# Altium schematic symbol library Conectores_Sch.SchLib: 19 symbols
Pins are listed as number, name and electrical type; pins without a type are passive.

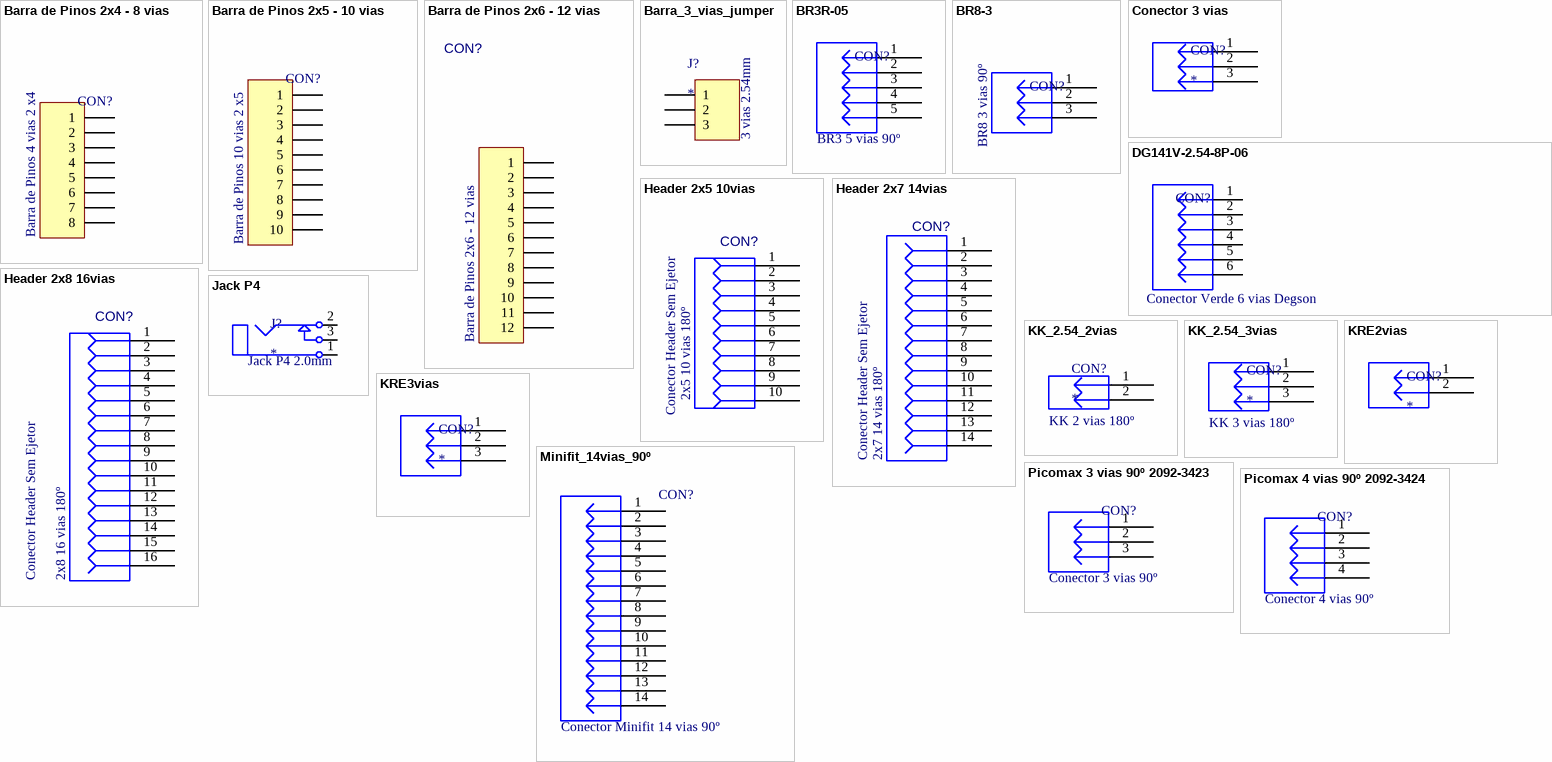
[diagram p0: symbols Barra de Pinos 2x4 - 8 vias to Picomax 4 vias 90º 2092-3424]

## Barra de Pinos 2x4 - 8 vias
designator CON?  Descrição: Barra de Pinos 4 vias 2 x4  (hidden comment: *)
Barra de Pinos 8 vias 2x4; Modelo: 2x4 8 vias - 180º; Observação: Não Montar; Encapsulamento: PTH - 180º; Marca: *
footprint HDR2X4 (Connector; Header; 3x2 Position)
footprint BARRA DE PINOS 2X4 - 90°
pins: 1, 2, 3, 4, 5, 6, 7, 8

## Barra de Pinos 2x5 - 10 vias
designator CON?  Descrição: Barra de Pinos 10 vias 2 x5  (hidden comment: *)
Barra de Pinos 10 vias 2x5; Modelo: 2x5 10 vias - 180º; Observação: Não Montar; Encapsulamento: PTH - 180º; Marca: *
footprint BARRA DE PINOS 2x5 180º (BARRA DE PINOS 5x2 180º Position)
pins: 1, 2, 3, 4, 5, 6, 7, 8, 9, 10

## Barra de Pinos 2x6 - 12 vias
designator CON?
Encapsulamento: PTH - 12 vias 180º; Marca: *; Modelo: *; Observação: *; Valor: *; Descrição: Barra de Pinos 2x6 - 12 vias
footprint BARRA DE PINOS 2X6 - 90°
footprint BARRA DE PINOS 2x6 180º (BARRA DE PINOS 2x6 180º Position)
pins: 1, 2, 3, 4, 5, 6, 7, 8, 9, 10, 11, 12

## Barra_3_vias_jumper
designator J?  Valor: 3 vias 2.54mm
Barra de Pinos 3 vias com Jumper; Descrição: Barras de Pinos 3 vias 180º com Jumper; Encapsulamento: PTH - 3 Vias 180º; Modelo: 3 Vias 180º; Marca: *; Observação: *
footprint Barra_Pinos_3_Jumper
pins: 1, 2, 3

## BR3R-05
designator CON?  Valor: BR3 5 vias 90º  (hidden comment: *)
Conector BR3 5 vias; Descrição: Conector BR3 5 vias 90º; Encapsulamento: PTH - 90º; Marca: Metaltex; Modelo: 5 vias - 90º; Observação: *
footprint KR3R-5vias
pins: 1, 2, 3, 4, 5

## BR8-3
designator CON?  Valor: BR8 3 vias 90º  (hidden comment: *)
Conector BR3 5 vias; Descrição: Conector BR8 3 vias; Encapsulamento: PTH - 90º; Marca: Metaltex; Modelo: BR8MN-03; Observação: *
footprint BR8MC-03
footprint BR8MN-03
pins: 1, 2, 3

## Conector 3 vias
designator CON?
Conector 3 vias sem corpo; Encapsulamento: PTH - 180º; Modelo: 3 vias - 180º; Descrição: Conector 3 vias sem Corpo; Marca: *; Observação: *
footprint CONECTOR_3_VIAS_SEM_CORPO
pins: 1, 2, 3

## DG141V-2.54-8P-06
designator CON?  Descrição: Conector Verde 6 vias Degson  (hidden comment: *)
Degson 6 Vias Verde; Encapsulamento: PTH - 180º; Modelo: DG141V-2.54-8P-06; Marca: *; Observação: *
footprint DG141V-2.54-8P-06
pins: 1, 2, 3, 4, 5, 6

## Header 2x5 10vias
designator CON?  Modelo: 2x5 10 vias 180º  Descrição: Conector Header Sem Ejetor  (hidden comment: Header 2x5 10vias)
CONNFEM2X5; Encapsulamento: PTH - 2x5 10 vias 180º; Valor: *; Marca: *; Observação: *
footprint HEADER 2x5 180º
footprint HEADER 2x5 90º
pins: 1, 2, 3, 4, 5, 6, 7, 8, 9, 10

## Header 2x7 14vias
designator CON?  Modelo: 2x7 14 vias 180º  Descrição: Conector Header Sem Ejetor  (hidden comment: Header 2x7 14vias)
CONNFEM2X7; Encapsulamento: PTH - 2x7 14 vias 180º; Valor: *; Marca: *; Observação: *
footprint HEADER 2x7 180º
pins: 1, 2, 3, 4, 5, 6, 7, 8, 9, 10, 11, 12, 13, 14

## Header 2x8 16vias
designator CON?  Modelo: 2x8 16 vias 180º  Descrição: Conector Header Sem Ejetor  (hidden comment: Header 2x8 16vias)
CONNFEM2X5; Encapsulamento: PTH - 2x8 16 vias 180º; Valor: *; Marca: *; Observação: *
footprint HEADER 2x8 180º
footprint HEADER 2x8 180º SMD
pins: 1, 2, 3, 4, 5, 6, 7, 8, 9, 10, 11, 12, 13, 14, 15, 16

## Jack P4
designator J?  Valor: Jack P4 2.0mm
Conector Femêa Jack P4; Descrição: Conector Femêa Jack P4 2mm; Encapsulamento: PTH; Marca: *; Modelo: *; Observação: *
footprint CONECTOR_JACK_P4
pins: 1, 2, 3

## KK_2.54_2vias
designator CON?  Valor: KK 2 vias 180º
Conector KK 2.54mm 2 vias; Descrição: Conector KK 3 vias com passo 2.54mm; Encapsulamento: PTH - 180º; Modelo: 2 vias - 180º; Marca: *; Observação: *
footprint KK_2VIAS_180º
pins: 1, 2

## KK_2.54_3vias
designator CON?  Valor: KK 3 vias 180º
Conector KK 2.54mm 3 vias; Descrição: Conector KK 3 vias com passo 2.54mm; Encapsulamento: PTH - 180º; Modelo: 3 vias - 180º; Marca: *; Observação: *
footprint KK_3vias_180º
pins: 1, 2, 3

## KRE2vias
designator CON?
Conector 2 vias; Descrição: Conector KRE 2 vias 180º; Encapsulamento: PTH - 180º; Modelo: 2 vias - 180º; Marca: *; Observação: *
footprint KRE2-2vias
pins: 1, 2

## KRE3vias
designator CON?
Conector 3 vias; Descrição: Conector KRE 3 vias 180º; Encapsulamento: PTH - 180º; Modelo: 3 vias - 180º; Marca: *; Observação: *
footprint KRE3-3vias
pins: 1, 2, 3

## Minifit_14vias_90º
designator CON?  Descrição: Conector Minifit 14 vias 90º  (hidden comment: *)
Minifit 14 vias 90º; Marca: Metaltex; Modelo: MFPL-14; Encapsulamento: PTH - 14 vias 90º; Observação: https://www.metaltex.com.br/assets/produtos/pdf/mf.pdf
footprint MFPL-14
pins: 1, 2, 3, 4, 5, 6, 7, 8, 9, 10, 11, 12, 13, 14

## Picomax 3 vias 90º 2092-3423
designator CON?  Descrição: Conector 3 vias 90º  (hidden comment: *)
WAGO 2092-3423; Encapsulamento: PTH - 3 vias 90º; Marca: WAGO; Modelo: 2092-3423
footprint Conn PicoMax 2092-3423
pins: 1, 2, 3

## Picomax 4 vias 90º 2092-3424
designator CON?  Descrição: Conector 4 vias 90º  (hidden comment: *)
WAGO 2092-3424; Encapsulamento: PTH - 4 vias 90º; Marca: WAGO; Modelo: 2092-3424
footprint Conn PicoMax 2092-3424
pins: 1, 2, 3, 4